# Altium schematic symbol library 2019-03-19_07-38-36.SchLib: 2 symbols
Pins are listed as number, name and electrical type; pins without a type are passive.

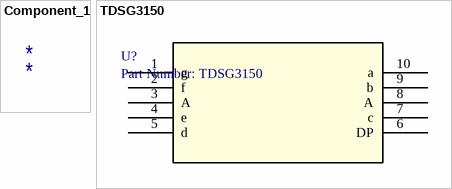
[diagram p0: symbols Component_1 to TDSG3150]

## Component_1
designator *

## TDSG3150
designator U?, comment Part Number: TDSG3150
No Description Available; Vendor: Vishay; Built_By: EMA_UL_Team; Manufacturer_Part_Number: TDSG3150; Copyright: Copyright (C) 2018 Accelerated Designs. All rights reserved; RefDes: RefDes; Type: DEV; Value: Value
footprint DIP10_TDS
pins: 1 g, 2 f, 3 A, 4 e, 5 d, 6 DP, 7 c, 8 A, 9 b, 10 a